# Altium footprint library CP_RADIAL_D12.5_P5.0_H22.0.PcbLib: 1 footprints
Each footprint in its own frame and in the unit in brackets; x right, y up, seen from the top. Pads: shape width x height; smd on the part's side, far side on the other; paste and mask are expansions set on the pad; w line width, h text height; cw(c..) or ccw(c..) is an arc to the next point about the centre after c.
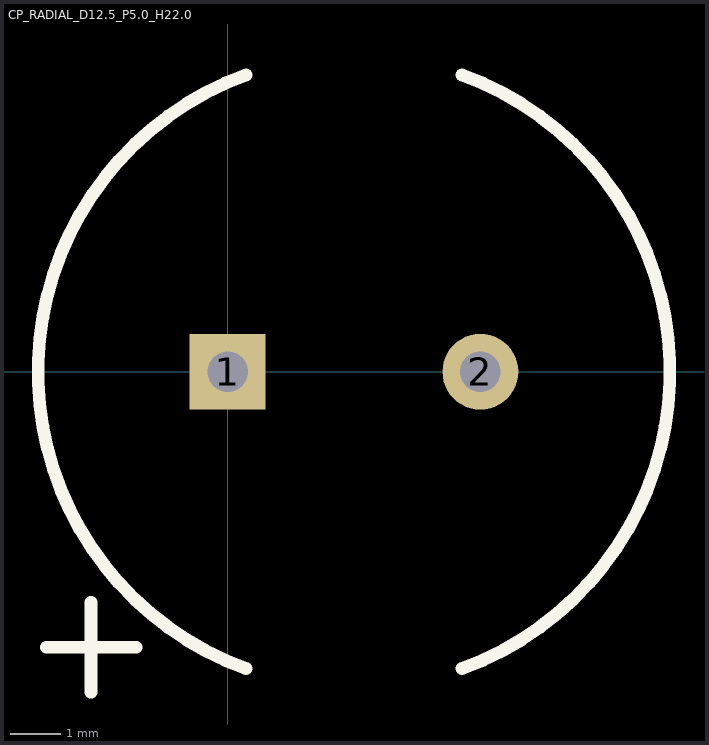
[diagram p0: the footprint, top view; thin cyan lines are the x and y axes]

## CP_RADIAL_D12.5_P5.0_H22.0 [mm] "2 Leaded Al Cap, 5mm spacing, 12.5mm diameter"
height 20
pads (2):
  rect 1.5x1.5 hole 0.8: 1(0,0)
  round 1.5 hole 0.8: 2(5,0)
Top Overlay:
  lines w0.254: -3.589,-5.45 -1.811,-5.45 ; -2.7,-6.339 -2.7,-4.561 ; 0.362,-5.873 cw(c2.5,0) 0.362,5.873 ; 4.638,-5.873 ccw(c2.5,0) 4.638,5.873
3D body: height 22, standoff 0, extent -3.75,-6.247 8.75,6.247